# Altium schematic symbol library ADP7104ARDZ-5.0-R7.SchLib: 1 symbol
Pins are listed as number, name and electrical type; pins without a type are passive.

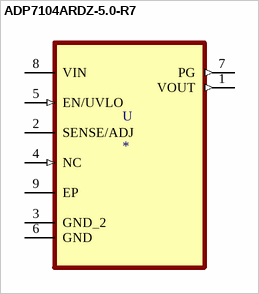
[diagram p0: symbol ADP7104ARDZ-5.0-R7]

## ADP7104ARDZ-5.0-R7
designator U
Linear Voltage Regulator IC 1 Output 500mA 8-SOIC-EP; MP: ADP7104ARDZ-5.0-R7; MF: Analog Devices; Availability: Unavailable; SnapEDA_Link: https://www.snapeda.com/parts/ADP7104ARDZ-5.0-R7/Analog%20Devices%20Inc./view-part/447566/?ref=snap; Price: None; Arrow_Electronics-Purchase-URL: https://snapeda.com/shop?store=Arrow+Electronics&id=447566; Package: SOIC-8 Analog Devices; Value: *
footprint SOIC127P600X175-9N
pins: 1 VOUT (out), 2 SENSE/ADJ, 3 GND_2, 4 NC (in), 5 EN/UVLO (in), 6 GND, 7 PG (out), 8 VIN (power), 9 EP